# Altium footprint library PcbLib1.PcbLib: 6 footprints
Each footprint in its own frame and in the unit in brackets; x right, y up, seen from the top. Pads: shape width x height; smd on the part's side, far side on the other; paste and mask are expansions set on the pad; w line width, h text height; cw(c..) or ccw(c..) is an arc to the next point about the centre after c.
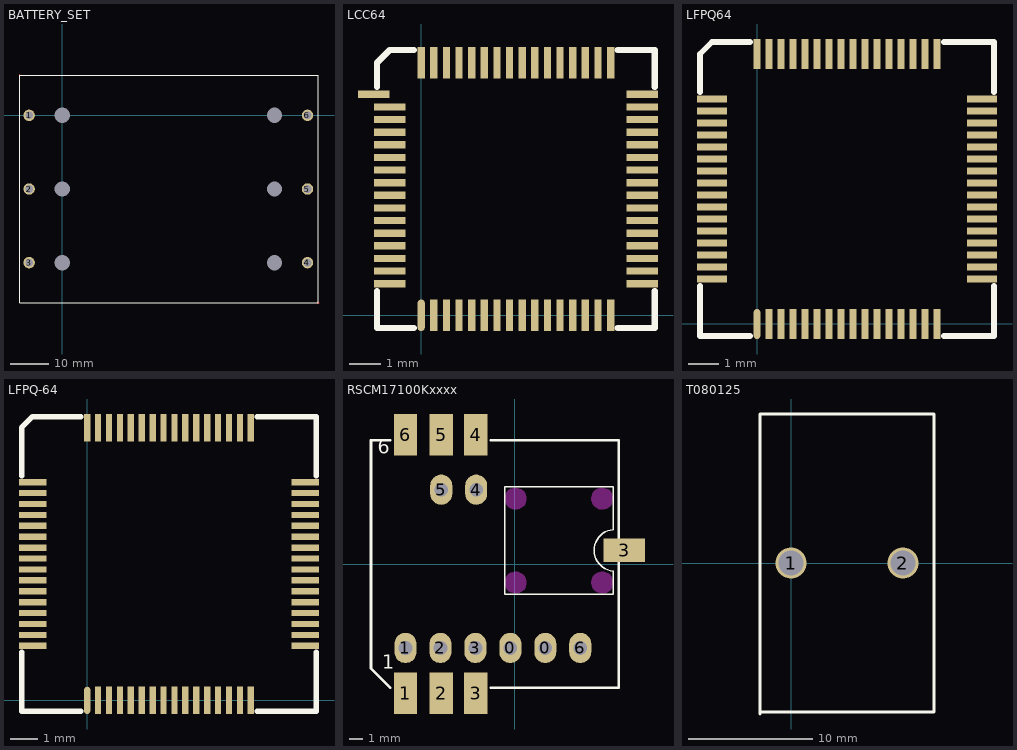
[diagram p0: the footprints below, top view; thin cyan lines are the x and y axes]

## BATTERY_SET [mm]
pads (12):
  round 3 hole 2: 1(-8.64,0) 2(-8.64,-19.29) 3(-8.64,-38.58) 4(64.26,-38.58) 5(64.26,-19.29) 6(64.26,0)
  round 0 hole 4: 7(0,0) 8(0,-19.29) 9(0,-38.58) 10(55.61,0) 11(55.62,-19.29) 12(55.62,-38.58)
Top Layer:
  lines w0.254: -11.294,10.555 -10.786,10.555 ; -11.04,10.301 -11.04,10.809 ; 66.766,-49.135 67.274,-49.135 ; 67.02,-49.389 67.02,-48.881
  text "-11.04,10.555 (mm)" at -10.786,10.555 h1.52
  text "67.02,-49.135 (mm)" at 67.274,-49.135 h1.52
Top Overlay:
  lines w0.254: -11.04,-49.135 -11.04,10.555 67.02,10.555 67.02,-49.135 -11.04,-49.135

## LCC64 [mm]
pads (64):
  oval 0.23x1 smd: 1(0,0)
  rect 0.23x1 smd: 2(0.4,0) 3(0.8,0) 4(1.2,0) 5(1.6,0) 6(2,0) 7(2.4,0) 8(2.8,0) 9(3.2,0) 10(3.6,0) 11(4,0) 12(4.4,0) 13(4.8,0) 14(5.2,0) 15(5.6,0) 16(6,0) 33(6,8) 34(5.6,8) 35(5.2,8) 36(4.8,8) 37(4.4,8) 38(4,8) 39(3.6,8) 40(3.2,8) 41(2.8,8) 42(2.4,8) 43(2,8) 44(1.6,8) 45(1.2,8) 46(0.8,8) 47(0.4,8) 48(0,8)
  rect 1x0.23 smd: 17(7,1) 18(7,1.4) 19(7,1.8) 20(7,2.2) 21(7,2.6) 22(7,3) 23(7,3.4) 24(7,3.8) 25(7,4.2) 26(7,4.6) 27(7,5) 28(7,5.4) 29(7,5.8) 30(7,6.2) 31(7,6.6) 32(7,7) 49(-1.5,7) 50(-1,6.6) 51(-1,6.2) 52(-1,5.8) 53(-1,5.4) 54(-1,5) 55(-1,4.6) 56(-1,4.2) 57(-1,3.8) 58(-1,3.4) 59(-1,3) 60(-1,2.6) 61(-1,2.2) 62(-1,1.8) 63(-1,1.4) 64(-1,1)
Top Overlay:
  lines w0.2: -1.4,0.77 -1.4,-0.4 -0.23,-0.4 ; -1.4,7.23 -1.4,8 -1,8.4 -0.23,8.4 ; 6.23,-0.4 7.4,-0.4 7.4,0.77 ; 6.23,8.4 7.4,8.4 7.4,7.23

## LFPQ64 [mm]
pads (64):
  oval 0.23x1 smd: 1(0,0)
  rect 0.23x1 smd: 2(0.4,0) 3(0.8,0) 4(1.2,0) 5(1.6,0) 6(2,0) 7(2.4,0) 8(2.8,0) 9(3.2,0) 10(3.6,0) 11(4,0) 12(4.4,0) 13(4.8,0) 14(5.2,0) 15(5.6,0) 16(6,0) 33(6,9) 34(5.6,9) 35(5.2,9) 36(4.8,9) 37(4.4,9) 38(4,9) 39(3.6,9) 40(3.2,9) 41(2.8,9) 42(2.4,9) 43(2,9) 44(1.6,9) 45(1.2,9) 46(0.8,9) 47(0.4,9) 48(0,9)
  rect 1x0.23 smd: 17(7.5,1.5) 18(7.5,1.9) 19(7.5,2.3) 20(7.5,2.7) 21(7.5,3.1) 22(7.5,3.5) 23(7.5,3.9) 24(7.5,4.3) 25(7.5,4.7) 26(7.5,5.1) 27(7.5,5.5) 28(7.5,5.9) 29(7.5,6.3) 30(7.5,6.7) 31(7.5,7.1) 32(7.5,7.5) 49(-1.5,7.5) 50(-1.5,7.1) 51(-1.5,6.7) 52(-1.5,6.3) 53(-1.5,5.9) 54(-1.5,5.5) 55(-1.5,5.1) 56(-1.5,4.7) 57(-1.5,4.3) 58(-1.5,3.9) 59(-1.5,3.5) 60(-1.5,3.1) 61(-1.5,2.7) 62(-1.5,2.3) 63(-1.5,1.9) 64(-1.5,1.5)
Top Overlay:
  lines w0.2: -1.9,1.27 -1.9,-0.4 -0.23,-0.4 ; -1.9,7.73 -1.9,9 -1.5,9.4 -0.23,9.4 ; 6.23,-0.4 7.9,-0.4 7.9,1.27 ; 6.23,9.4 7.9,9.4 7.9,7.73

## LFPQ-64 [mm]
pads (64):
  oval 0.23x1 smd: 1(0,0)
  rect 0.23x1 smd: 2(0.4,0) 3(0.8,0) 4(1.2,0) 5(1.6,0) 6(2,0) 7(2.4,0) 8(2.8,0) 9(3.2,0) 10(3.6,0) 11(4,0) 12(4.4,0) 13(4.8,0) 14(5.2,0) 15(5.6,0) 16(6,0) 33(6,10) 34(5.6,10) 35(5.2,10) 36(4.8,10) 37(4.4,10) 38(4,10) 39(3.6,10) 40(3.2,10) 41(2.8,10) 42(2.4,10) 43(2,10) 44(1.6,10) 45(1.2,10) 46(0.8,10) 47(0.4,10) 48(0,10)
  rect 1x0.23 smd: 17(8,2) 18(8,2.4) 19(8,2.8) 20(8,3.2) 21(8,3.6) 22(8,4) 23(8,4.4) 24(8,4.8) 25(8,5.2) 26(8,5.6) 27(8,6) 28(8,6.4) 29(8,6.8) 30(8,7.2) 31(8,7.6) 32(8,8) 49(-2,8) 50(-2,7.6) 51(-2,7.2) 52(-2,6.8) 53(-2,6.4) 54(-2,6) 55(-2,5.6) 56(-2,5.2) 57(-2,4.8) 58(-2,4.4) 59(-2,4) 60(-2,3.6) 61(-2,3.2) 62(-2,2.8) 63(-2,2.4) 64(-2,2)
Top Overlay:
  lines w0.2: -2.4,1.77 -2.4,-0.4 -0.23,-0.4 ; -2.4,8.23 -2.4,10 -2,10.4 -0.23,10.4 ; 6.23,-0.4 8.4,-0.4 8.4,1.77 ; 6.23,10.4 8.4,10.4 8.4,8.23

## RSCM17100Kxxxx [mm]
pads (15):
  oval 1.6x2.2 hole 1: 0(-0.33,-6.1) 0(2.21,-6.1) 1(-7.95,-6.1) 2(-5.41,-6.1) 3(-2.87,-6.1) 4(-2.81,5.4) 5(-5.35,5.4) 6(4.75,-6.1)
  rect 1.7x3 smd: 1(-7.95,-9.4) 2(-5.35,-9.4) 3(-2.85,-9.4) 4(-2.85,9.4) 5(-5.35,9.4) 6(-7.95,9.4)
  rect 3x1.7 smd: 3(7.95,1)
Top Overlay:
  lines w0.1: 7.149,-0.517 cw(c7.269,0.991) 7.15,2.5 7.15,5.6 -0.75,5.6 -0.75,-2.2 7.15,-2.2 7.15,-0.5
  lines w0.2: -9.05,-9 -10.45,-7.6 -10.45,9 -9.05,9 ; -1.75,-9 7.55,-9 7.55,9 -1.75,9
  text "6" at -9.95,8 h1
  text "1" at -9.65,-7.6 h1
Keep-Out Layer:
  circle w0.1: c0.05,4.75 r0.75
  circle w0.1: c6.35,-1.35 r0.75
  circle w0.1: c6.35,4.75 r0.75
  circle w0.1: c0.05,-1.35 r0.75
  board cut-out: -0.706,4.75 -0.681,4.554 -0.605,4.372 -0.485,4.215 -0.328,4.095 -0.146,4.019 0.05,3.994 0.246,4.019 0.428,4.095 0.585,4.215 0.705,4.372 0.781,4.554 0.806,4.75 0.781,4.946 0.705,5.128 0.585,5.285 0.428,5.405 0.246,5.481 0.05,5.506 -0.146,5.481 -0.328,5.405 -0.485,5.285 -0.605,5.128 -0.681,4.946
  board cut-out: 5.594,-1.35 5.619,-1.546 5.695,-1.728 5.815,-1.885 5.972,-2.005 6.154,-2.081 6.35,-2.106 6.546,-2.081 6.728,-2.005 6.885,-1.885 7.005,-1.728 7.081,-1.546 7.106,-1.35 7.081,-1.154 7.005,-0.972 6.885,-0.815 6.728,-0.695 6.546,-0.619 6.35,-0.594 6.154,-0.619 5.972,-0.695 5.815,-0.815 5.695,-0.972 5.619,-1.154
  board cut-out: 5.594,4.75 5.619,4.554 5.695,4.372 5.815,4.215 5.972,4.095 6.154,4.019 6.35,3.994 6.546,4.019 6.728,4.095 6.885,4.215 7.005,4.372 7.081,4.554 7.106,4.75 7.081,4.946 7.005,5.128 6.885,5.285 6.728,5.405 6.546,5.481 6.35,5.506 6.154,5.481 5.972,5.405 5.815,5.285 5.695,5.128 5.619,4.946
  board cut-out: -0.706,-1.35 -0.681,-1.546 -0.605,-1.728 -0.485,-1.885 -0.328,-2.005 -0.146,-2.081 0.05,-2.106 0.246,-2.081 0.428,-2.005 0.585,-1.885 0.705,-1.728 0.781,-1.546 0.806,-1.35 0.781,-1.154 0.705,-0.972 0.585,-0.815 0.428,-0.695 0.246,-0.619 0.05,-0.594 -0.146,-0.619 -0.328,-0.695 -0.485,-0.815 -0.605,-0.972 -0.681,-1.154

## T080125 [mm]
pads (2):
  round 2.5 hole 2: 1(0,0) 2(9,0)
Top Overlay:
  lines w0.254: -2.5,-12.152 -2.5,12 11.5,12 11.5,-12 -2.5,-12